# EAGLE library part -7SEG_4DIG (library misc)
4 digit 7 segment display common cathodes
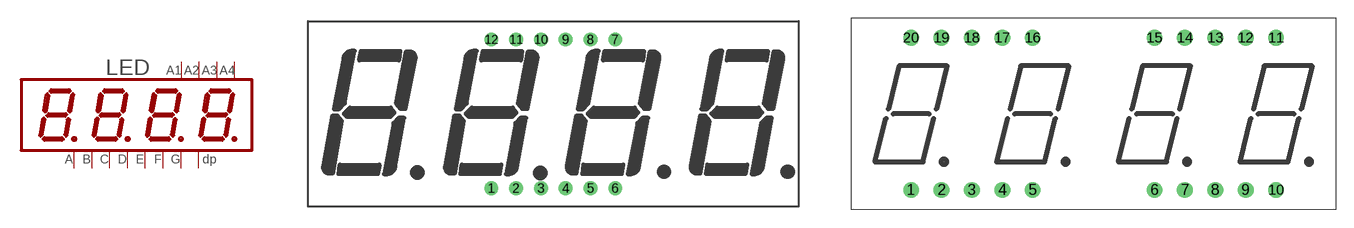
[diagram p47: symbol with the pads of CX56-12; footprints CX56-12, CA04-41SRWA]

Designator prefix LED

## -7SEG_4DIG-CA56-12SRWA (MANF: Kingbright; MANF#: CA56-12SRWA)  [CX56-12]
1  E  pas
2  D  pas
3  DP  pas
4  C  pas
5  G  pas
6  A4  pas
7  B  pas
8  A3  pas
9  A2  pas
10  F  pas
11  A  pas
12  A1  pas

## -7SEG_4DIG-CA04-41SRWA (MANF: Kingbright; MANF#: CA04-41SRWA)  [CA04-41SRWA]
1  D  pas
2  DP  pas
3  E  pas
4  C  pas
5  A2  pas
7  DP  pas
10  A4  pas
15  A3  pas
16  B  pas
17  A  pas
18  F  pas
19  G  pas
20  A1  pas

## Footprint CX56-12 (pad centres in mm)
14.22mm (0.56INCH) THREE DIGIT NUMERIC DISPLAY Source: http://www.kingbright.com .. BA56-11EWA(Ver1189474895.pdf
drill 0.8 pad 1.422: 1 -6.35,-7.62; 2 -3.81,-7.62; 3 -1.27,-7.62; 4 1.27,-7.62; 5 3.81,-7.62; 6 6.35,-7.62; 7 6.35,7.62; 8 3.81,7.62; 9 1.27,7.62; 10 -1.27,7.62; 11 -3.81,7.62; 12 -6.35,7.62

## Footprint CA04-41SRWA (pad centres in mm)
drill 0.8: 1 -15.24,-6.35; 2 -12.7,-6.35; 3 -10.16,-6.35; 4 -7.62,-6.35; 5 -5.08,-6.35; 6 5.08,-6.35; 7 7.62,-6.35; 8 10.16,-6.35; 9 12.7,-6.35; 10 15.24,-6.35; 11 15.24,6.35; 12 12.7,6.35; 13 10.16,6.35; 14 7.62,6.35; 15 5.08,6.35; 16 -5.08,6.35; 17 -7.62,6.35; 18 -10.16,6.35; 19 -12.7,6.35; 20 -15.24,6.35